# EAGLE library part 691313410008 (library Wuerth_Elektronik_eiCan_Terminal_Blocks_v2.0)
WR-TBL Serie 3134 - 7.62 mm Open Horizontal PCB Header , 8 Pins
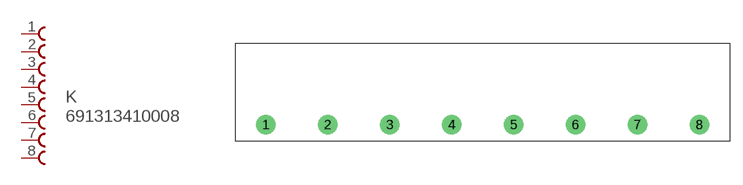
[diagram p188: symbol with the pads of 691313410008; footprint 691313410008]

Designator prefix K

## 691313410008  [691313410008]
1  1  pas
2  2  pas
3  3  pas
4  4  pas
5  5  pas
6  6  pas
7  7  pas
8  8  pas

## Footprint 691313410008 (pad centres in mm)
WR-TBL Serie 3134 - 7.62 mm Open Horizontal PCB Header , 8 Pins
drill 1.6 round: 1 -30.48,0; 2 -22.86,0; 3 -15.24,0; 4 -7.62,0; 5 0,0; 6 7.62,0; 7 15.24,0; 8 22.86,0